# EAGLE library part TPS63060 (library My_TI)
HIGH INPUT VOLTAGE BUCK-BOOST CONVERTER WITH 2A SWITCH CURRENT. 2A/1A Output Current at 5V in Buck Mode. 1.3A Output Current at 5V in Boost Mode. Input Voltage Range: 2.5V to 12V. http://www.ti.com/lit/ds/symlink/tps63060-ep.pdf
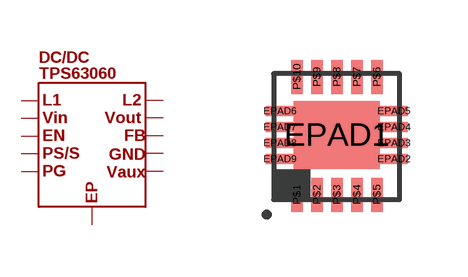
[diagram p19: symbol with the pads of PWSON10_3.15X3.15; footprint PWSON10_3.15X3.15]

Designator prefix DC/DC

## TPS63060  [PWSON10_3.15X3.15]
EPAD1  P$11
EPAD2  P$11
EPAD3  P$11
EPAD4  P$11
EPAD5  P$11
EPAD6  P$11
EPAD7  P$11
EPAD8  P$11
EPAD9  P$11
P$1  P$1
P$2  P$2
P$3  P$3
P$4  P$4
P$5  P$5
P$6  P$6
P$7  P$7
P$8  P$8
P$9  P$9
P$10  P$10

## Footprint PWSON10_3.15X3.15 (pad centres in mm)
smd 2.15 x 1.7: EPAD1 0,0
smd 0.7 x 0.25: EPAD2 1.425,-0.6; EPAD3 1.425,-0.2; EPAD4 1.425,0.2; EPAD5 1.425,0.6; EPAD6 -1.425,0.6; EPAD7 -1.425,0.2; EPAD8 -1.425,-0.2; EPAD9 -1.425,-0.6
smd 0.28 x 0.85: P$1 -1,-1.5; P$2 -0.5,-1.5; P$3 0,-1.5; P$4 0.5,-1.5; P$5 1,-1.5; P$6 1,1.45; P$7 0.5,1.45; P$8 0,1.45; P$9 -0.5,1.45; P$10 -1,1.45